# Altium footprint library Switch Expand.PcbLib: 4 footprints
Each footprint in its own frame and in the unit in brackets; x right, y up, seen from the top. Pads: shape width x height; smd on the part's side, far side on the other; paste and mask are expansions set on the pad; w line width, h text height; cw(c..) or ccw(c..) is an arc to the next point about the centre after c.
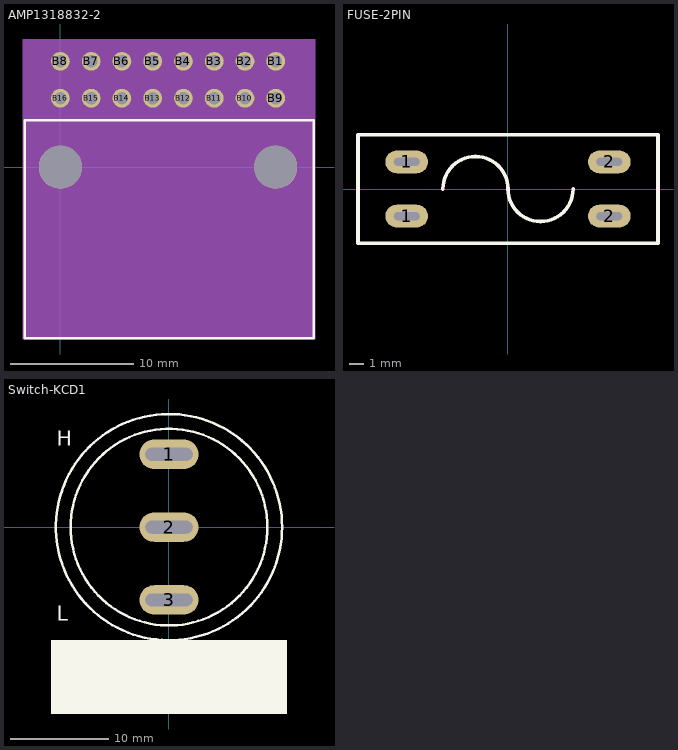
[diagram p0: the footprints below, top view; thin cyan lines are the x and y axes]

## AMP1318832-2 [mm] "AMP1318832-2"
pads (18):
  round 3.5 hole 3.5: " "(0,0) " "(17.5,0)
  round 1.524 hole 1: B1(17.5,8.6) B2(15,8.6) B3(12.5,8.6) B4(10,8.6) B5(7.5,8.6) B6(5,8.6) B7(2.5,8.6) B8(0,8.6) B9(17.5,5.6) B10(15,5.6) B11(12.5,5.6) B12(10,5.6) B13(7.5,5.6) B14(5,5.6) B15(2.5,5.6) B16(0,5.6)
Top Overlay:
  lines w0.2: -2.91,-13.9 20.585,-13.9 20.585,3.8 -2.91,3.8 -2.91,-13.9
Mechanical 13:
  text "B10" at 14.238,5.6 h0.64
  text "B11" at 11.738,5.6 h0.64
  text "B4" at 9.492,8.6 h0.64
  text "B5" at 6.992,8.6 h0.64
  text "B6" at 4.492,8.6 h0.64
  text "B7" at 1.992,8.6 h0.64
  text "B8" at -0.508,8.6 h0.64
  text "B12" at 9.238,5.6 h0.64
  text "B13" at 6.738,5.6 h0.64
  text "B14" at 4.238,5.6 h0.64
  text "B15" at 1.738,5.6 h0.64
  text "B16" at -0.762,5.6 h0.64
  text "B9" at 16.992,5.6 h0.64
  text "B1" at 16.992,8.6 h0.64
  text "B3" at 11.992,8.6 h0.64
  text "B2" at 14.492,8.6 h0.64
Mechanical 14:
  region: -3.048,10.414 -3.048,-13.97 20.701,-13.97 20.701,10.414

## FUSE-2PIN [mm] "车用保险丝"
pads (4):
  oval 3x1.6 hole 0.55 slot 1.8 at 0 deg: 1(-7.112,-1.905) 1(-7.112,1.905) 2(7.112,-1.905) 2(7.112,1.905)
Top Overlay:
  lines w0.254: -4.572,0 cw(c-2.286,0) 0,0 ccw(c2.286,0) 4.572,0 ; 10.406,3.81 -10.533,3.81 -10.533,-3.81 10.533,-3.81 10.533,3.81

## PCBComponent_1 [mm]

## Switch-KCD1 [mm]
pads (3):
  oval 6x3 hole 1.3 slot 4.8 at 0 deg: 1(0,7.4) 2(0,0) 3(0,-7.4)
Top Overlay:
  circle w0.254: c0,0 r11.5
  circle w0.254: c0,0 r10
  rectangle: -12,-19 12,-11.5
  text "H" at -11.43,8.255 h1.52
  text "L" at -11.43,-9.525 h1.52